# Altium footprint library sm_battery.PcbLib: 5 footprints
Each footprint in its own frame and in the unit in brackets; x right, y up, seen from the top. Pads: shape width x height; smd on the part's side, far side on the other; paste and mask are expansions set on the pad; w line width, h text height; cw(c..) or ccw(c..) is an arc to the next point about the centre after c.
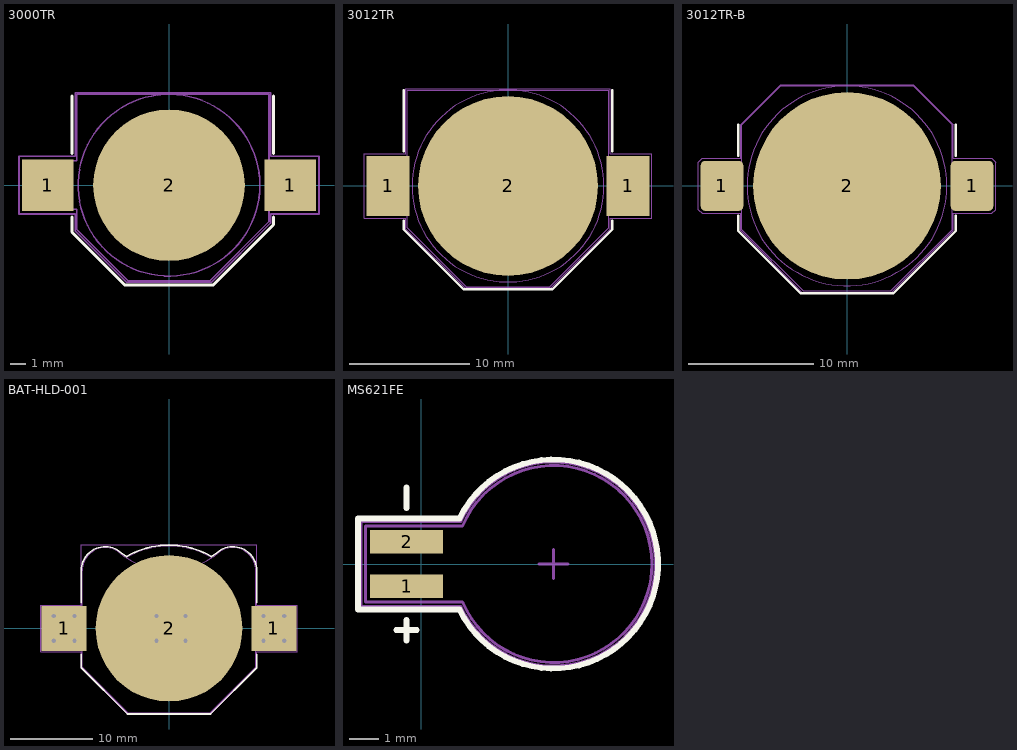
[diagram p0: the footprints below, top view; thin cyan lines are the x and y axes]

## 3000TR [mm] "CR1220 SMD Battery Holder"
height 3
pads (3):
  rect 3.4x3.4 smd: 1(-8,0) 1(8,0)
  round 10 smd mask-0.3: 2(0,0)
Top Overlay:
  lines w0.2: -6.4,-2.1 -6.4,-3.1 -2.9,-6.6 2.9,-6.6 6.9,-2.6 6.9,-2.1 ; -6.4,2.1 -6.4,5.9 ; 6.9,2.1 6.9,5.9
Mechanical 13:
  circle w0.1: c0,0 r6
  lines w0.1: -2,0 2,0 ; 0,-2 0,2 ; -9.5,-1.6 -9.5,1.6 -6.1,1.6 -6.1,6 6.6,6 6.6,1.6 9.5,1.6 9.5,-1.6 6.6,-1.6 6.6,-2.4 2.7,-6.3 -2.7,-6.3 -6.1,-2.9 -6.1,-1.6 -9.5,-1.6
Mechanical 15:
  lines w0.1: -9.9,-1.9 -6.2,-1.9 -6.2,-3 -2.8,-6.4 2.8,-6.4 6.7,-2.5 6.7,-1.9 9.9,-1.9 9.9,1.9 6.7,1.9 6.7,6.1 -6.2,6.1 -6.2,1.9 -9.9,1.9 -9.9,-1.9
  text ".Designator" at 2.3,-0.15 h0.5

## 3012TR [mm] "CR1620 SMD Battery Holder"
height 3
pads (3):
  rect 3.6x5 smd: 1(-10,0) 1(10,0)
  round 15 smd paste-7.5 mask-0.3: 2(0,0)
Top Overlay:
  lines w0.2: -8.7,-2.9 -8.7,-3.6 -3.7,-8.6 3.7,-8.6 8.7,-3.6 8.7,-2.9 ; -8.7,2.9 -8.7,8 ; 8.7,2.9 8.7,8
Mechanical 13:
  circle w0.1: c0,0 r8
  lines w0.1: -2,0 2,0 ; 0,-2 0,2 ; -11.6,-1.6 -8.4,-1.6 -8.4,-3.5 -3.5,-8.4 3.5,-8.4 8.4,-3.5 8.4,-1.6 11.6,-1.6 11.6,1.6 8.4,1.6 8.4,8 -8.4,8 -8.4,1.6 -11.6,1.6 -11.6,-1.6
Mechanical 15:
  lines w0.1: -12,-2.7 -12,2.7 -8.5,2.7 -8.5,8.1 8.5,8.1 8.5,2.7 12,2.7 12,-2.7 8.5,-2.7 8.5,-3.6 3.6,-8.5 -3.6,-8.5 -8.5,-3.6 -8.5,-2.7 -12,-2.7
  text ".Designator" at 2.3,-0.15 h0.5
3D body: height 2, standoff 0, extent -8,-8 7.937,7.968

## 3012TR-B [mm] "CR1620 SMD Battery Holder"
height 3
pads (3):
  rrect20% 3.4x4 smd: 1(-10,0) 1(10,0)
  round 15 smd paste-7.5 mask-0.3: 2(0,0)
Top Overlay:
  lines w0.2: -8.7,-2.4 -8.7,-3.6 -3.7,-8.6 3.7,-8.6 8.7,-3.6 8.7,-2.4 ; -8.7,2.4 -8.7,4.9 ; 8.7,2.4 8.7,4.9
Mechanical 13:
  circle w0.1: c0,0 r8
  lines w0.1: -2,0 2,0 ; 0,-2 0,2 ; -11.6,-1.6 -8.4,-1.6 -8.4,-3.5 -3.5,-8.4 3.5,-8.4 8.4,-3.5 8.4,-1.6 11.6,-1.6 11.6,1.6 8.4,1.6 8.4,4.9 5.3,8 -5.3,8 -8.4,4.9 -8.4,1.6 -11.6,1.6 -11.6,-1.6
Mechanical 15:
  lines w0.1: -11.9,-1.9 -11.6,-2.2 -8.5,-2.2 -8.5,-3.6 -3.6,-8.5 3.6,-8.5 8.5,-3.6 8.5,-2.2 11.6,-2.2 11.9,-1.9 11.9,1.9 11.6,2.2 8.5,2.2 8.5,4.9 5.3,8.1 -5.3,8.1 -8.5,4.9 -8.5,2.2 -11.6,2.2 -11.9,1.9 -11.9,-1.9
  text ".Designator" at 2.3,-0.15 h0.5
3D body: height 3.98, standoff 0.02, extent -11.608,-7.754 11.608,7.588

## BAT-HLD-001 [mm] "CR2032 SMD Battery Holder"
height 3.1
pads (3):
  rect 5.5x5.5 smd: 1(-12.75,0) 1(12.75,0)
  round 17.8 smd mask-0.3: 2(0,0)
via -1.5,-1.5 diameter 1 hole 0.5
via 2,-1.5 diameter 1 hole 0.5
via 2,1.5 diameter 1 hole 0.5
via -1.5,1.5 diameter 1 hole 0.5
via 11.5,-1.5 diameter 1 hole 0.5
via 11.5,1.5 diameter 1 hole 0.5
via -11.5,-1.5 diameter 1 hole 0.5
via -11.5,1.5 diameter 1 hole 0.5
via 14,1.5 diameter 1 hole 0.5
via 14,-1.5 diameter 1 hole 0.5
via -14,1.5 diameter 1 hole 0.5
via -14,-1.5 diameter 1 hole 0.5
Top Overlay:
  lines w0.2: -10.675,-3.125 -10.675,-4.775 -5.05,-10.4 5.05,-10.4 10.675,-4.775 10.675,-3.125 ; -10.675,3.125 -10.675,7 cw(c-7.75,7) -5.831,9.208 -5.141,8.728 cw(c0,0) 5.141,8.728 5.831,9.208 cw(c7.75,7) 10.675,7 10.675,3.125
Mechanical 13:
  lines w0.1: -5.914,9.115 ccw(c0,16.55) 5.914,9.115 ; -5.913,9.113 ccw(c-7.75,7) -10.55,7 -10.55,2.625 -15.375,2.625 -15.375,-2.625 -10.55,-2.625 -10.55,-4.725 -5,-10.275 5,-10.275 10.55,-4.725 10.55,-2.625 15.375,-2.625 15.375,2.625 10.55,2.625 10.55,7 ccw(c7.75,7) 5.913,9.113 ; -5.15,8.572 cw(c0,0) 5.15,8.572 ; -2,0 2,0 ; 0,-2 0,2
Mechanical 15:
  lines w0.1: -15.575,-2.825 -10.675,-2.825 -10.675,-4.8 -5.075,-10.4 5.05,-10.4 10.675,-4.775 10.675,-2.825 15.575,-2.825 15.575,2.825 10.675,2.825 10.675,10.15 -10.675,10.15 -10.675,2.825 -15.575,2.825 -15.575,-2.825
  text ".Designator" at 2.3,-0.15 h0.5
3D body: height 3.22, standoff 0.02, extent -10,-10 10,10
3D body: height 3.98, standoff 0.02, extent -15.367,-10.274 15.367,9.779

## MS621FE [mm] "6.8mm Solder Mount Battery"
height 2.7
pads (2):
  rect 2.5x0.8 smd: 1(-0.5,-0.75) 2(-0.5,0.75)
Top Overlay:
  lines w0.2: -0.85,-2.25 -0.15,-2.25 ; -0.5,-2.6 -0.5,-1.9 ; -0.5,1.9 -0.5,2.6 ; -2.15,-1.55 1.3,-1.55 ccw(c4.5,0) 1.3,1.55 -2.15,1.55 -2.15,-1.55
Mechanical 13:
  lines w0.1: 1.4,-1.3 -1.9,-1.3 -1.9,1.3 1.4,1.3 ; 1.411,1.296 cw(c4.5,0) 1.415,-1.305 ; 4,0 5,0 ; 4.5,-0.5 4.5,0.5
Mechanical 15:
  lines w0.1: -2.05,-1.45 -2.05,1.45 1.35,1.45 cw(c4.5,0) 1.35,-1.45 -2.05,-1.45
  text ".Designator" at 2.3,-0.15 h0.5
3D body: height 2.55, standoff 0.15, extent 1.113,-3.393 7.887,3.393
3D body: height 0.15, standoff 0, extent -1.4,-0.9 6,1
3D body: height 2.7, standoff 2.55, extent 0.65,-1 5.5,0.9
3D body: height 2.55, standoff 0.65, extent 0.65,-1 0.8,0.9
3D body: height 0.15, standoff 0, extent -1.4,-1 0.8,-0.5
3D body: height 0.65, standoff 0.15, extent 0.65,-1 0.8,-0.5